# EAGLE library part 7SEG_2.3IN_70MM_CA (library seven_segment)
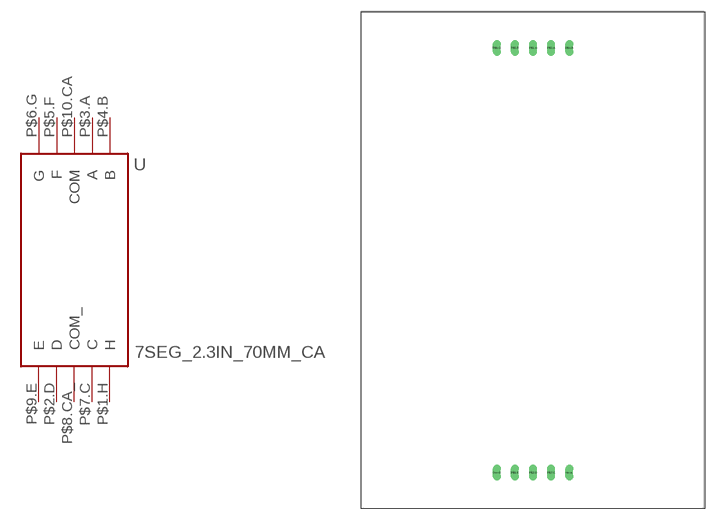
[diagram p1: symbol with the pads of 2.3INCH_70MM; footprint 2.3INCH_70MM]

Designator prefix -

## 7SEG_2.3IN_70MM_CA  [2.3INCH_70MM]
P$1.H  H
P$2.D  D
P$3.A  A
P$4.B  B
P$5.F  F
P$6.G  G
P$7.C  C
P$8.CA_  COM_
P$9.E  E
P$10.CA  COM

## Footprint 2.3INCH_70MM (pad centres in mm)
drill 0.6 long: P$1.H 24.13,64.77; P$2.D 24.13,5.08; P$3.A 26.67,64.77; P$4.B 29.21,64.77; P$5.F 21.59,64.77; P$6.G 19.05,64.77; P$7.C 26.67,5.08; P$8.CA_ 29.21,5.08; P$9.E 21.59,5.08; P$10.CA 19.05,5.08